# Altium schematic symbol library INA138_Components - 05.03.22 - 11.52.SchLib: 1 symbol
Pins are listed as number, name and electrical type; pins without a type are passive.

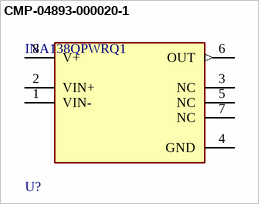
[diagram p0: symbol CMP-04893-000020-1]

## CMP-04893-000020-1
designator U?, comment INA138QPWRQ1
IC CURRENT MONITOR 0.5% 8TSSOP; Min Supply Voltage: 2.7V; Supply Current: 45uA; Common Mode Rejection Ratio: 100dB; Number of Elements: 1; Input Bias Current: 10nA; Input Offset Voltage (Vos): 2mV; Max Supply Voltage: 36V; Mount: Surface Mount; Min Operating Temperature: -40°C; RoHS Compliant: Yes; Max Operating Temperature: 125°C; Series: Automotive, AEC-Q100; Package Quantity: 1; Nominal Supply Current: 45uA; Number of Pins: 8; Accuracy: 0.5%; Weight: 0.001376oz; Lead Free: Lead Free; Radiation Hardening: No; Packaging: Tape and Reel; Number of Channels: 1; Case/Package: TSSOP
footprint FP-PW0008A-IPC_B
footprint FP-PW0008A-MFG
footprint FP-PW0008A-IPC_C
footprint FP-PW0008A-IPC_A
pins: 1 VIN- (power), 2 VIN+ (power), 3 NC, 4 GND (power), 5 NC, 6 OUT (out), 7 NC, 8 V+ (power)